# Altium schematic symbol library Kontaktory_GHOST_2_755-87.SchLib: 6 symbols
Pins are listed as number, name and electrical type; pins without a type are passive.

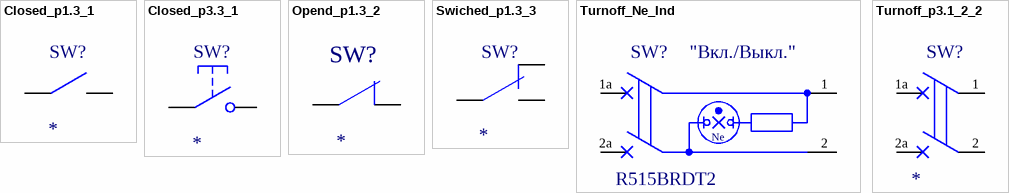
[diagram p0: symbols Closed_p1.3_1 to Turnoff_p3.1_2_2]

## Closed_p1.3_1
designator SW?
Замыкающий по п. 1.3 1); ValueSch: *
pins: Move1 "Условно подвижный контакт", Open1 "Условно разомкнутый контакт"

## Closed_p3.3_1
designator SW?
Кнопка с замыкающим контактом с автоматическим возвратом  по п. 3.3 1); ValueSch: *; Marking: *
pins: Move1 "Условно подвижный контакт", Open1 "Условно разомкнутый контакт"

## Opend_p1.3_2
designator SW?
Размыкающий по п. 1.3 2); ValueSch: *
pins: Closed1 "Условно замкнутый контакт", Move1 "Условно подвижный контакт"
1 alternate drawing of the same symbol

## Swiched_p1.3_3
designator SW?
Переключающий по п. 1.3 3); ValueSch: *
pins: Closed1 "Условно замкнутый контакт", Move1 "Условно подвижный контакт", Open1 "Условно разомкнутый контакт"

## Turnoff_Ne_Ind
designator SW?, comment R515BRDT2  Marking: "Вкл./Выкл."
Выключатель 2-х линейный с индикацией газоразрядной лампой; ValueSch: R515BRDT2
pins: 1 Move1, 1a Open1, 2 Move2, 2a Open2
text: Ne

## Turnoff_p3.1_2_2
designator SW?
Выключатель 2-х линейный; ValueSch: *
pins: 1 Move1, 1a Open1, 2 Move2, 2a Open2